# Altium schematic symbol library B2405D.SchLib: 1 symbol
Pins are listed as number, name and electrical type; pins without a type are passive.

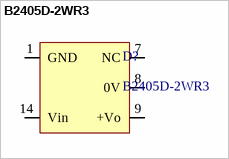
[diagram p0: symbol B2405D-2WR3]

## B2405D-2WR3
designator D?
DC/DC-隔离定电压输入电源(0.2-3W)
footprint B_D-2WR3
pins: 1 GND, 7 NC, 8 0V, 9 +Vo, 14 Vin